# Altium schematic symbol library DHNF-04F-T-V-T_R.SchLib: 1 symbol
Pins are listed as number, name and electrical type; pins without a type are passive.

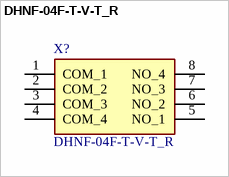
[diagram p0: symbol DHNF-04F-T-V-T_R]

## DHNF-04F-T-V-T_R
designator X?
DIP Switches / SIP Switches Half Pitch Dip switch 1.6mm height; Manufacturer_Name: Diptronics; Manufacturer_Part_Number: DHNF-04F-T-V-T/R; Geometry.Height: 1.65mm; Mouser Part Number: 113-DHNF04FTVTR; Mouser Price/Stock: https://www.mouser.com/Search/Refine.aspx?Keyword=113-DHNF04FTVTR; Datasheet Link: https://componentsearchengine.com//DHNF-04F-T-V-T_R.pdf
footprint DHNF04FTVTR
pins: 1 COM_1, 2 COM_2, 3 COM_3, 4 COM_4, 5 NO_1, 6 NO_2, 7 NO_3, 8 NO_4